# Altium footprint library BCS80 (sense resistor).PcbLib: 1 footprints
Each footprint in its own frame and in the unit in brackets; x right, y up, seen from the top. Pads: shape width x height; smd on the part's side, far side on the other; paste and mask are expansions set on the pad; w line width, h text height; cw(c..) or ccw(c..) is an arc to the next point about the centre after c.
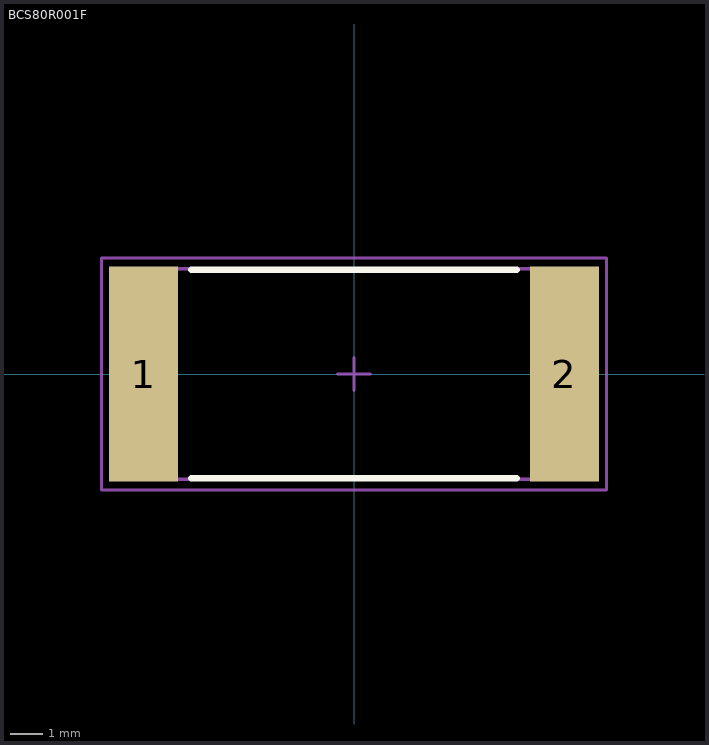
[diagram p0: the footprint, top view; thin cyan lines are the x and y axes]

## BCS80R001F [mm] "Sense resistor BI Technologies 0.001ohm"
height 2.5
pads (2):
  rect 2.1x6.55 smd: 1(-6.4,0) 2(6.4,0)
Top Overlay:
  lines w0.2: -4.95,-3.175 4.95,-3.175 ; -4.95,3.175 4.95,3.175
Mechanical 13:
  lines w0.1: -6.15,-3.2 6.15,-3.2 6.15,3.2 -6.15,3.2 -6.15,-3.2
Mechanical 15:
  lines w0.1: -0.5,0 0.5,0 ; 0,-0.5 0,0.5 ; -7.675,-3.525 7.675,-3.525 7.675,3.525 -7.675,3.525 -7.675,-3.525
3D body: height 2.5, standoff 0, extent -6.15,-3.2 6.15,3.2